# Altium schematic symbol library My_lib.SchLib: 144 symbols (part 1 of 2)
Pins are listed as number, name and electrical type; pins without a type are passive.

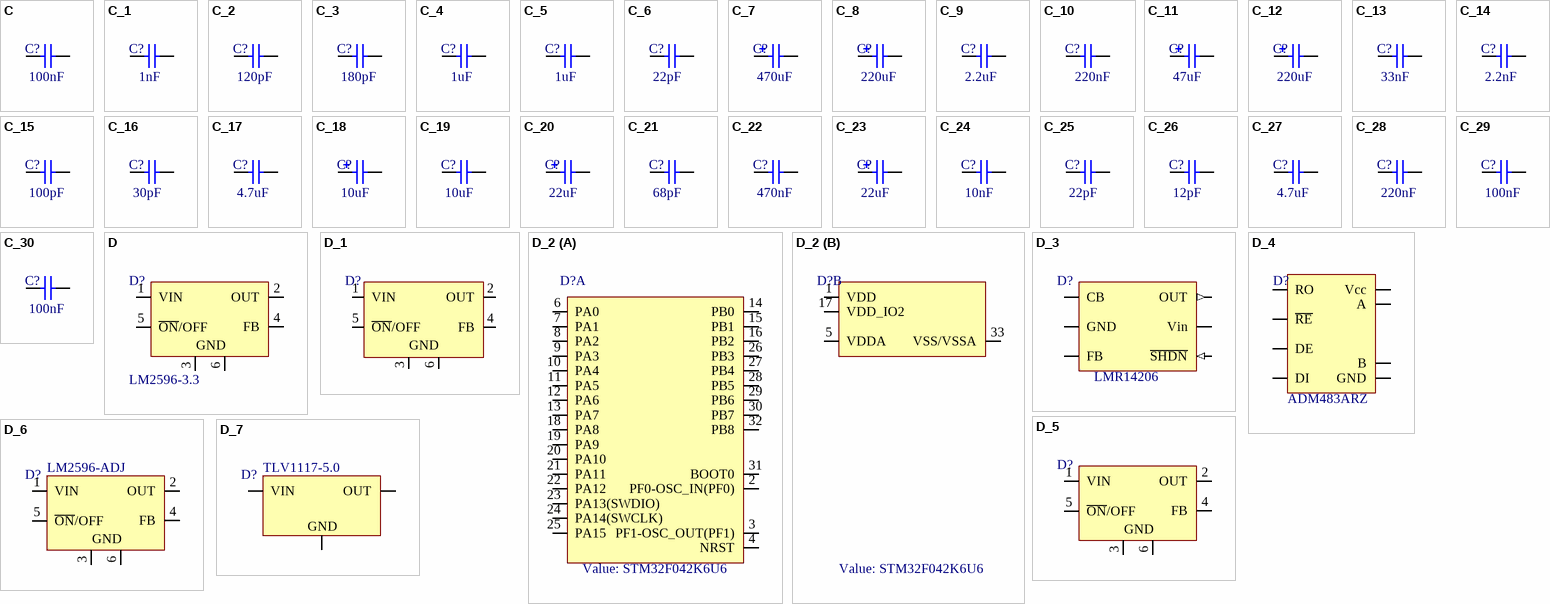
[diagram p0: symbols C to D_7]

## C
designator C?  value 100nF
CAP SMD Керамический 100nF 50v X7R 10% 0603; Family: Конденсатор; Isolator: X7R; Montage: SMD; Tolerance: 10%; Type: Керамический; Voltage: 50v; Package: 0603
simulation model CAP (Capacitor)
signal-integrity model Cap
footprint C_0603 (Chip, Body 1.6x0.85mm, IPC High Density)
pins: 1, 2

## C_1
designator C?  value 1nF
CAP SMD Керамический 1nF 50v X7R 10% 0603; Family: Конденсатор; Isolator: X7R; Montage: SMD; Tolerance: 10%; Type: Керамический; Voltage: 50v; Package: 0603
simulation model CAP (Capacitor)
signal-integrity model Cap
footprint C_0603 (Chip, Body 1.6x0.85mm, IPC High Density)
pins: 1, 2

## C_2
designator C?  value 120pF
CAP SMD Керамический 120pF 50v NPO 5% 0603; Family: Конденсатор; Isolator: NPO; Montage: SMD; Tolerance: 5%; Type: Керамический; Voltage: 50v; Package: 0603
simulation model CAP (Capacitor)
signal-integrity model Cap
footprint C_0603 (Chip, Body 1.6x0.85mm, IPC High Density)
pins: 1, 2

## C_3
designator C?  value 180pF
CAP SMD Керамический 180pF 50v NPO 5% 0603; Family: Конденсатор; Isolator: NPO; Montage: SMD; Tolerance: 5%; Type: Керамический; Voltage: 50v; Package: 0603
simulation model CAP (Capacitor)
signal-integrity model Cap
footprint C_0603 (Chip, Body 1.6x0.85mm, IPC High Density)
pins: 1, 2

## C_4
designator C?  value 1uF
CAP SMD Керамический 1uF 25v X5R 10% 0603; Family: Конденсатор; Isolator: X5R; Montage: SMD; Tolerance: 10%; Type: Керамический; Voltage: 25v; Package: 0603
simulation model CAP (Capacitor)
signal-integrity model Cap
footprint C_0603 (Chip, Body 1.6x0.85mm, IPC High Density)
pins: 1, 2

## C_5
designator C?  value 1uF
CAP SMD Керамический 1uF 50v X5R 10% 0603; Family: Конденсатор; Isolator: X5R; Montage: SMD; Tolerance: 10%; Type: Керамический; Voltage: 50v; Package: 0603
simulation model CAP (Capacitor)
signal-integrity model Cap
footprint C_0603 (Chip, Body 1.6x0.85mm, IPC High Density)
pins: 1, 2

## C_6
designator C?  value 22pF
CAP SMD Керамический 22pF 50v NPO 5% 0603; Family: Конденсатор; Isolator: NPO; Montage: SMD; Tolerance: 5%; Type: Керамический; Voltage: 50v; Package: 0603
simulation model CAP (Capacitor)
signal-integrity model Cap
footprint C_0603 (Chip, Body 1.6x0.85mm, IPC High Density)
pins: 1, 2

## C_7
designator C?  value 470uF
CAP SMD Электролитический 470uF 35v 20% AL_CAP_1216; Family: Конденсатор; Montage: SMD; Tolerance: 20%; Type: Электролитический; Voltage: 35v; Package: AL_CAP_1216
simulation model CAP (Capacitor)
signal-integrity model Cap
footprint AL_CAP_1216 (Aluminium Cap |13.6mm)
pins: 1, 2

## C_8
designator C?  value 220uF
CAP SMD Электролитический 220uF 16v 20% AL_CAP_0607; Family: Конденсатор; Montage: SMD; Tolerance: 20%; Type: Электролитический; Voltage: 16v; Package: AL_CAP_0607
simulation model CAP (Capacitor)
signal-integrity model Cap
footprint AL_CAP_0607 (Aluminium Cap |6.6mm)
pins: 1, 2

## C_9
designator C?  value 2.2uF
CAP SMD Керамический 2.2uF 50v X7R 10% 1206; Family: Конденсатор; Isolator: X7R; Montage: SMD; Tolerance: 10%; Type: Керамический; Voltage: 50v; Package: 1206
simulation model CAP (Capacitor)
signal-integrity model Cap
footprint C_1206 (Chip, Body 3.2x1.6mm, IPC High Density)
pins: 1, 2

## C_10
designator C?  value 220nF
CAP SMD Керамический 220nF 50v X7R 20% 0603; Family: Конденсатор; Isolator: X7R; Montage: SMD; Tolerance: 20%; Type: Керамический; Voltage: 50v; Package: 0603
simulation model CAP (Capacitor)
signal-integrity model Cap
footprint C_0603 (Chip, Body 1.6x0.85mm, IPC High Density)
pins: 1, 2

## C_11
designator C?  value 47uF
CAP SMD Танталовый 47uF 10v 20% TANT_A; Family: Конденсатор; Montage: SMD; Tolerance: 20%; Type: Танталовый; Voltage: 10v; Package: TANT_A
simulation model CAP (Capacitor)
signal-integrity model Cap
footprint TANT_A (TANT_A; 2 Leads)
pins: 1, 2

## C_12
designator C?  value 220uF
CAP SMD Электролитический 220uF 25v 20% AL_CAP_0810; Family: Конденсатор; Montage: SMD; Tolerance: 20%; Type: Электролитический; Voltage: 25v; Package: AL_CAP_0810
simulation model CAP (Capacitor)
signal-integrity model Cap
footprint AL_CAP_0810 (Aluminium Cap |10mm)
pins: 1, 2

## C_13
designator C?  value 33nF
CAP SMD Керамический 33nF 50v X7R 10% 0603; Family: Конденсатор; Isolator: X7R; Montage: SMD; Tolerance: 10%; Type: Керамический; Voltage: 50v; Package: 0603
simulation model CAP (Capacitor)
signal-integrity model Cap
footprint C_0603 (Chip, Body 1.6x0.85mm, IPC High Density)
pins: 1, 2

## C_14
designator C?  value 2.2nF
CAP SMD Керамический 2.2nF 50v X7R 10% 0603; Family: Конденсатор; Isolator: X7R; Montage: SMD; Tolerance: 10%; Type: Керамический; Voltage: 50v; Package: 0603
simulation model CAP (Capacitor)
signal-integrity model Cap
footprint C_0603 (Chip, Body 1.6x0.85mm, IPC High Density)
pins: 1, 2

## C_15
designator C?  value 100pF
CAP SMD Керамический 100pF 50v NPO 5% 0603; Family: Конденсатор; Isolator: NPO; Montage: SMD; Tolerance: 5%; Type: Керамический; Voltage: 50v; Package: 0603
simulation model CAP (Capacitor)
signal-integrity model Cap
footprint C_0603 (Chip, Body 1.6x0.85mm, IPC High Density)
pins: 1, 2

## C_16
designator C?  value 30pF
CAP SMD Керамический 30pF 50v NPO 5% 0603; Family: Конденсатор; Isolator: NPO; Montage: SMD; Tolerance: 5%; Type: Керамический; Voltage: 50v; Package: 0603
simulation model CAP (Capacitor)
signal-integrity model Cap
footprint C_0603 (Chip, Body 1.6x0.85mm, IPC High Density)
pins: 1, 2

## C_17
designator C?  value 4.7uF
CAP SMD Керамический 4.7uF 10v X5R 20% 0603; Family: Конденсатор; Isolator: X5R; Montage: SMD; Tolerance: 20%; Type: Керамический; Voltage: 10v; Package: 0603
simulation model CAP (Capacitor)
signal-integrity model Cap
footprint C_0603 (Chip, Body 1.6x0.85mm, IPC High Density)
pins: 1, 2

## C_18
designator C?  value 10uF
CAP SMD Электролитический 10uF 50v 20% AL_CAP_0505; Family: Конденсатор; Montage: SMD; Tolerance: 20%; Type: Электролитический; Voltage: 50v; Package: AL_CAP_0505
simulation model CAP (Capacitor)
signal-integrity model Cap
footprint AL_CAP_0505 (Aluminium Cap |5.4mm)
pins: 1, 2

## C_19
designator C?  value 10uF
CAP SMD Керамический 10uF 10v X7R 10% 0805; Family: Конденсатор; Isolator: X7R; Montage: SMD; Tolerance: 10%; Type: Керамический; Voltage: 10v; Package: 0805
simulation model CAP (Capacitor)
signal-integrity model Cap
footprint C_0805 (Chip, Body 1.6x0.85mm, IPC High Density)
pins: 1, 2

## C_20
designator C?  value 22uF
CAP SMD Электролитический 22uF 35v 20% AL_CAP_0505; Family: Конденсатор; Montage: SMD; Tolerance: 20%; Type: Электролитический; Voltage: 35v; Package: AL_CAP_0505
simulation model CAP (Capacitor)
signal-integrity model Cap
footprint AL_CAP_0505 (Aluminium Cap |5.4mm)
pins: 1, 2

## C_21
designator C?  value 68pF
CAP SMD Керамический 68pF 50v NPO 5% 0402; Family: Конденсатор; Isolator: NPO; Montage: SMD; Tolerance: 5%; Type: Керамический; Voltage: 50v; Package: 0402
simulation model CAP (Capacitor)
signal-integrity model Cap
footprint C_0402 (Chip, Body 1.6x0.85mm, IPC High Density)
pins: 1, 2

## C_22
designator C?  value 470nF
CAP SMD Керамический 470nF 25v X7R 10% 0603; Family: Конденсатор; Isolator: X7R; Montage: SMD; Tolerance: 10%; Type: Керамический; Voltage: 25v; Package: 0603
simulation model CAP (Capacitor)
signal-integrity model Cap
footprint C_0603 (Chip, Body 1.6x0.85mm, IPC High Density)
pins: 1, 2

## C_23
designator C?  value 22uF
CAP SMD Танталовый 22uF 10v 20% TANT_A; Family: Конденсатор; Montage: SMD; Tolerance: 20%; Type: Танталовый; Voltage: 10v; Package: TANT_A
simulation model CAP (Capacitor)
signal-integrity model Cap
footprint TANT_A (TANT_A; 2 Leads)
pins: 1, 2

## C_24
designator C?  value 10nF
CAP SMD Керамический 10nF 16v X7R 10% 0201; Family: Конденсатор; Isolator: X7R; Montage: SMD; Tolerance: 10%; Type: Керамический; Voltage: 16v; Package: 0201
simulation model CAP (Capacitor)
signal-integrity model Cap
footprint C_0201 (Chip, Body 0.6x0.3mm, IPC High Density)
pins: 1, 2

## C_25
designator C?  value 22pF
CAP SMD Керамический 22pF 50v NPO 5% 0402; Family: Конденсатор; Isolator: NPO; Montage: SMD; Tolerance: 5%; Type: Керамический; Voltage: 50v; Package: 0402
simulation model CAP (Capacitor)
signal-integrity model Cap
footprint C_0402 (Chip, Body 1.6x0.85mm, IPC High Density)
pins: 1, 2

## C_26
designator C?  value 12pF
CAP SMD Керамический 12pF 50v NPO 5% 0402; Family: Конденсатор; Isolator: NPO; Montage: SMD; Tolerance: 5%; Type: Керамический; Voltage: 50v; Package: 0402
simulation model CAP (Capacitor)
signal-integrity model Cap
footprint C_0402 (Chip, Body 1.6x0.85mm, IPC High Density)
pins: 1, 2

## C_27
designator C?  value 4.7uF
CAP SMD Керамический 4.7uF 10v X7R 10% 0805; Family: Конденсатор; Isolator: X7R; Montage: SMD; Tolerance: 10%; Type: Керамический; Voltage: 10v; Package: 0805
simulation model CAP (Capacitor)
signal-integrity model Cap
footprint C_0805 (Chip, Body 1.6x0.85mm, IPC High Density)
pins: 1, 2

## C_28
designator C?  value 220nF
CAP SMD Керамический 220nF 25v X7R 10% 0603; Family: Конденсатор; Isolator: X7R; Montage: SMD; Tolerance: 10%; Type: Керамический; Voltage: 25v; Package: 0603
simulation model CAP (Capacitor)
signal-integrity model Cap
footprint C_0603 (Chip, Body 1.6x0.85mm, IPC High Density)
pins: 1, 2

## C_29
designator C?  value 100nF
CAP SMD Керамический 100nF 16v X7R 10% 0603; Family: Конденсатор; Isolator: X7R; Montage: SMD; Tolerance: 10%; Type: Керамический; Voltage: 16v; Package: 0603
simulation model CAP (Capacitor)
signal-integrity model Cap
footprint C_0603 (Chip, Body 1.6x0.85mm, IPC High Density)
pins: 1, 2

## C_30
designator C?  value 100nF
CAP SMD Керамический 100nF 16v X7R 10% 0402; Family: Конденсатор; Isolator: X7R; Montage: SMD; Tolerance: 10%; Type: Керамический; Voltage: 16v; Package: 0402
simulation model CAP (Capacitor)
signal-integrity model Cap
footprint C_0402 (Chip, Body 1.6x0.85mm, IPC High Density)
pins: 1, 2

## D
designator D?  value LM2596-3.3
LM2596-3.3 Buck Step Down Regulator with 4.75 to 40 V Input and 3.3 V Output, -40 to 125 degC, 5-Pin DDPAK/TO-263 (KTT), Green (RoHS & no Sb/Br); Manufacturer: Texas Instruments; Iout(Max)(A): 1; Preset Vout(V): 3.3; Vin(Max)(V): 40; Vin(Min)(V): 4.75; PackageDescription: 6-Pin Plastic Fange-Mount Package 1.7 mm Pitch, 15.2 mm Lead Span; Topology: Buck; Vout(Max)(V): 3.3; Vout(Min)(V): 3.3; Mounting Technology: Surface Mount
footprint TO-263 (D2-PAK, 6-Leads, Body 8.9x10.2mm, Pitch 1.7mm, Lead Span 15.2mm, IPC Medium Density)
pins: 1 VIN (power), 2 OUT (power), 3 GND (power), 4 FB, 5 ~{ON}/OFF, 6 GND (power)

## D_1
designator D?
LM2596-5.0 Buck Step Down Regulator with 4.75 to 40 V Input and 5.0 V Output, -40 to 125 degC, 5-Pin DDPAK/TO-263 (KTT), Green (RoHS & no Sb/Br); Manufacturer: Texas Instruments; Iout(Max)(A): 1; Iq(Typ)(mA): 5; Preset Vout(V): 5.0; SubFamily: Step-Down Regulator; Switch Current Limit(Typ)(A): 2.8; Vin(Max)(V): 40; Vin(Min)(V): 4.75; PackageReference: KTT5; PackageDescription: 6-Pin Plastic Fange-Mount Package 1.7 mm Pitch, 15.2 mm Lead Span; Topology: Buck; Vout(Max)(V): 5.0; Vout(Min)(V): 5.0; Mounting Technology: Surface Mount; Code_JEDEC: TO-263-AB; ComponentLink1Description: Datasheet; ComponentLink2Description: Package Specification; ComponentLink3Description: URL Link1
footprint TO-263 (D2-PAK, 6-Leads, Body 8.9x10.2mm, Pitch 1.7mm, Lead Span 15.2mm, IPC Medium Density)
pins: 1 VIN (power), 2 OUT (power), 3 GND (power), 4 FB (in), 5 ~{ON}/OFF (in), 6 GND (power)

## D_2
designator D?  value STM32F042K6U6
STM32F042K6U6 ARM Cortex-M0 32-bit MCU, 32 KB Flash, 6 KB Internal RAM, 28 I/Os, 32-pin UFQFPN, -40 to 85 degC, Tray; PartNumber: STM32F050K4U6; FLASH Size (Prog) (kB): 16; I/Os (High Current): 27; Internal RAM Size (kB): 4; Operating Frequency(F) (Processor speed) (MHz): 48; Supply Voltage(Vcc) min (V): 2; DatasheetVersion: Rev. 1; PackageVersion: Rev. 3, 07/2012; PackageReference: UFQFPN32; PackageDescription: 32-Pin Ultra Thin Fine Pitch Quad Flat No-Lead, 5 x 5 x 0.6 mm Body, 0.5 mm Pitch, Exposed Pad; Core: ARM Cortex-M0; Packing: Tray; Mounting Technology: Surface Mount; ComponentLink1Description: Manufacturer URL; ComponentLink1URL: http://www.st.com/web/en/home.html; ComponentLink2Description: Datasheet; ComponentLink2URL: http://www.st.com/st-web-ui/static/active/en/resource/technical/document/datasheet/DM00065136.pdf; ComponentLink3Description: Package Specification; ComponentLink3URL: http://www.st.com/st-web-ui/static/active/en/resource/technical/document/datasheet/DM00039193.pdf
footprint UFQFPN32 (QFN, 32-Leads, Body 5.1x5.1mm, Pitch 0.5mm, Thermal Pad 3.5x3.5mm, IPC Medium Density)
part A pins: 2 PF0-OSC_IN(PF0) (io) "PF0-OSC_IN(PF0)/OSC_IN", 3 PF1-OSC_OUT(PF1) (io) "PF1-OSC_OUT(PF1)/OSC_OUT", 4 NRST (io) "Device reset input / internal reset output (active low)", 6 PA0 (io) "PA0/TIM2_CH1_ETR,USART1_CTS/ADC_IN0,RTC_TAMP2,WKUP1", 7 PA1 (io) "PA1/TIM2_CH2,EVENTOUT,USART1_RTS/ADC_IN1", 8 PA2 (io) "PA2/TIM2_CH3,USART1_TX/ADC_IN2", 9 PA3 (io) "PA3/TIM2_CH4,USART1_RX/ADC_IN3", 10 PA4 (io) "PA4/SPI1_NSS,I2S1_WS,TIM14_CH1,USART1_CK/ADC_IN4", 11 PA5 (io) "PA5/SPI1_SCK,I2S1_CK,TIM2_CH1_ETR/ADC_IN5", 12 PA6 (io) "PA6/SPI1_MISO,I2S1_MCK,TIM3_CH1,TIM1_BKIN,TIM16_CH1,EVENTOUT/ADC_IN6", 13 PA7 (io) "PA7/SPI1_MOSI,I2S1_SD,TIM3_CH2,TIM14_CH1,TIM1_CH1N,TIM17_CH1,EVENTOUT/ADC_IN7", 14 PB0 (io) "PB0/TIM3_CH3,TIM1_CH2N,EVENTOUT/ADC_IN8", 15 PB1 (io) "PB1/TIM3_CH4,TIM14_CH1,TIM1_CH3N/ADC_IN9", 16 PB2 (io), 18 PA8 (io) "PA8/USART1_CK,TIM1_CH1,EVENTOUT,MCO", 19 PA9 (io) "PA9/USART1_TX,TIM1_CH2,I2C1_SCL", 20 PA10 (io) "PA10/USART1_RX,TIM1_CH3,TIM17_BKIN,I2C1_SDA", 21 PA11 (io) "PA11/USART1_CTS,TIM1_CH4,EVENTOUT", 22 PA12 (io) "PA12/USART1_RTS,TIM1_ETR,EVENTOUT", 23 PA13(SWDIO) (io) "PA13(SWDAT)/IR_OUT,SWDAT", 24 PA14(SWCLK) (io) "PA14(SWCLK)/SWCLK,USART1_TX", 25 PA15 (io) "PA15/SPI1_NSS,I2S1_WS,TIM2_CH_ETR,EVENTOUT,USART1_RX", 26 PB3 (io) "PB3/SPI1_SCK,I2S1_CK,TIM2_CH2,EVENTOUT", 27 PB4 (io) "PB4/SPI1_MISO,I2S1_MCK,TIM3_CH1,EVENTOUT", 28 PB5 (io) "PB5/SPI1_MOSI,I2S1_SD,I2C1_SMBA,TIM16_BKIN,TIM3_CH2", 29 PB6 (io) "PB6/I2C1_SCL,USART1_TX,TIM16_CH1N", 30 PB7 (io) "PB7/I2C1_SDA,USART1_RX,TIM17_CH1N", 31 BOOT0 "Boot memory selection", 32 PB8 (io) "PB8/I2C1_SCL,TIM16_CH1"
part B pins: 1 VDD (power) "Digital power supply", 5 VDDA (power) "Analog power supply", 17 VDD_IO2 (power) "Digital power supply", 33 VSS/VSSA (power)

## D_3
designator D?, comment LMR14206
LMR14206 Step Down Regulator 6Pin SOT23-6; Manufacturer: Texas Instruments; PartNumber: TL2575-33IKTTR; Iout(Max)(A): 1; Iq(Typ)(mA): 5; Preset Vout(V): 3.3; SubFamily: Step-Down Regulator; Switch Current Limit(Typ)(A): 2.8; Topology: Buck; Vin(Max)(V): 40; Vin(Min)(V): 4.75; PackageReference: KTT5; PackageDescription: 6-Pin Plastic Fange-Mount Package 1.7 mm Pitch, 15.2 mm Lead Span; Vout(Max)(V): 3.3; Vout(Min)(V): 3.3; Mounting Technology: Surface Mount; Code_JEDEC: TO-263-AB; Value: LMR14206
footprint SOT23-6 (SOT23, 6-Leads, Body 2.9x1.6mm, Pitch 0.95mm, Lead Span 2.7mm, IPC Medium Density)
pins: 1 CB, 2 GND (power), 3 FB (power), 4 ~{SHDN} (in), 5 Vin (power), 6 OUT (out)

## D_4
designator D?  value ADM483ARZ  (hidden comment: D_4)
ADM483; PackageDescription: 8-Pin Plastic Small Outline Package 0.65 mm Pitch
footprint SO8 (SOIC, 8-Leads, Body 6.1x4.95mm, Pitch 1.27mm, IPC Medium Density)
pins: 1 RO, 2 ~{RE}, 3 DE, 4 DI, 5 GND, 6 A, 7 B, 8 Vcc

## D_5
designator D?
LM2575-5.0 Buck Step Down Regulator with 4.75 to 40 V Input and 5.0 V Output, -40 to 125 degC, 5-Pin DDPAK/TO-263 (KTT), Green (RoHS & no Sb/Br); Manufacturer: Texas Instruments; PartNumber: TL2575-33IKTTR; Iout(Max)(A): 1; Iq(Typ)(mA): 5; Preset Vout(V): 5.0; SubFamily: Step-Down Regulator; Switch Current Limit(Typ)(A): 2.8; Vin(Max)(V): 40; Vin(Min)(V): 4.75; PackageReference: KTT5; PackageDescription: 6-Pin Plastic Fange-Mount Package 1.7 mm Pitch, 15.2 mm Lead Span; Topology: Buck; Vout(Max)(V): 5.0; Vout(Min)(V): 5.0; Mounting Technology: Surface Mount; Code_JEDEC: TO-263-AB
footprint TO-263 (D2-PAK, 6-Leads, Body 8.9x10.2mm, Pitch 1.7mm, Lead Span 15.2mm, IPC Medium Density)
pins: 1 VIN (power), 2 OUT (power), 3 GND (power), 4 FB, 5 ~{ON}/OFF, 6 GND (power)

## D_6
designator D?, comment PartNumber: LM2596-ADJ  (hidden comment: KTT5)
LM2596-ADJ Buck Step Down Regulator with 4.75 to 40 V Input and ADJ V Output, -40 to 125 degC, 5-Pin DDPAK/TO-263 (KTT), Green (RoHS & no Sb/Br); Manufacturer: ON Semiconductor; Iout(Max)(A): 3; Iq(Typ)(mA): 5; SubFamily: Step-Down Regulator; Switch Current Limit(Typ)(A): 2.8; Vin(Max)(V): 40; Vin(Min)(V): 4.75; PackageReference: KTT5; PackageDescription: 6-Pin Plastic Fange-Mount Package 1.7 mm Pitch, 15.2 mm Lead Span; Preset Vout(V): ADJ; Topology: Buck; Vout(Max)(V): ADJ; Vout(Min)(V): ADJ; Mounting Technology: Surface Mount; Code_JEDEC: TO-263-AB
footprint TO-263 (D2-PAK, 6-Leads, Body 8.9x10.2mm, Pitch 1.7mm, Lead Span 15.2mm, IPC Medium Density)
pins: 1 VIN (power), 2 OUT (power), 3 GND (power), 4 FB, 5 ~{ON}/OFF, 6 GND (power)

## D_7
designator D?, comment PartNumber: TLV1117-5.0  (hidden comment: KTT5)
TLV1117-5.0 Linear Regulator with 2.7 to 15 V Input and 5v Output, -40 to 125 degC, 3-Pin D-PAK/TO-252, Green (RoHS & no Sb/Br); Manufacturer: Texas Instruments; Iout(Max)(A): 0.8; Iq(Typ)(mA): 5; Switch Current Limit(Typ)(A): 2.8; Vin(Max)(V): 15; Vin(Min)(V): 2.7; PackageReference: KTT5; PackageDescription: 3-Pin Plastic Fange-Mount Package 1.7 mm Pitch, 15.2 mm Lead Span; Preset Vout(V): 5v; SubFamily: Linear Regulator; Topology: Linear; Vout(Max)(V): 5; Vout(Min)(V): 5; Mounting Technology: Surface Mount; Code_JEDEC: TO-263-AB
footprint TO-252 (D-PAK, 4-Leads, Body 6.1x6.5mm, Pitch 2.28mm, Lead Span 9.7mm, IPC Medium Density)
pins: 1 GND (power), 2 OUT (power), 3 VIN (power)

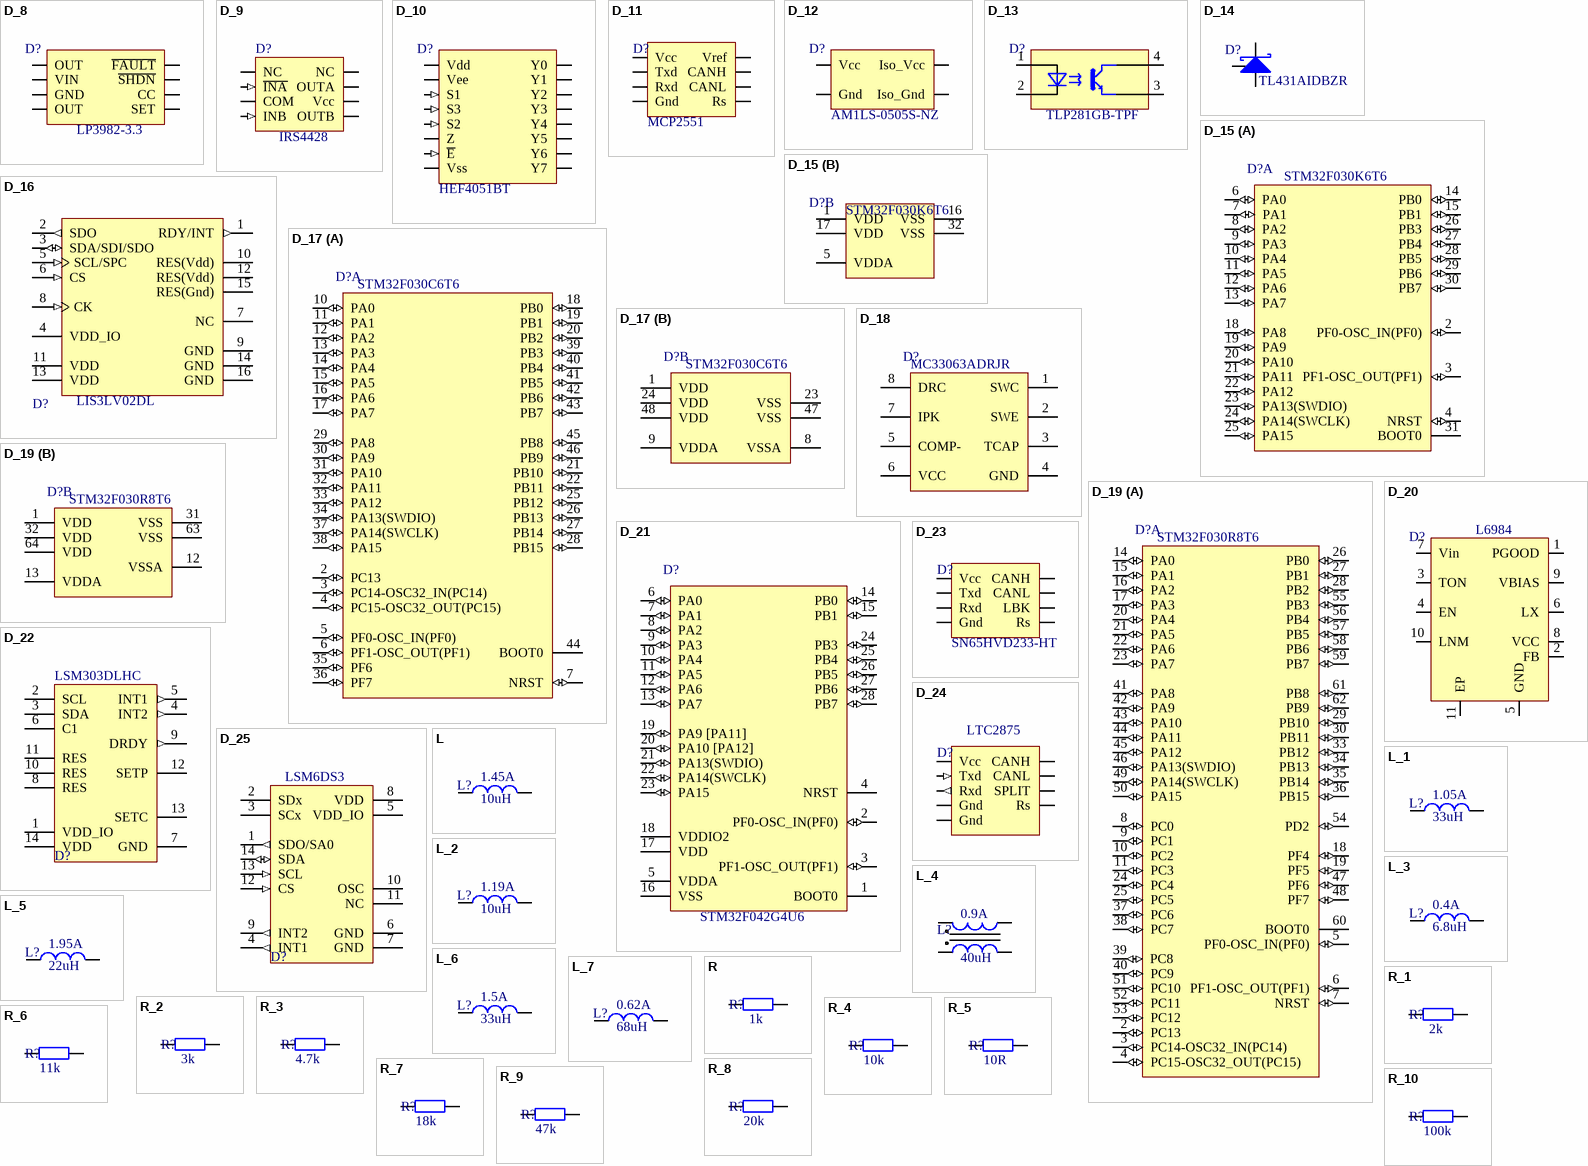
[diagram p1: symbols D_8 to R_10]

## D_8
designator D?, comment PartNumber: LP3982-3.3  (hidden comment: KTT5)
LP3982-3.3 Linear Regulator with 3.3v Output, -40 to 125 degC, 8-Pin VSSOP, Green (RoHS & no Sb/Br); Manufacturer: Texas Instruments; Iout(Max)(A): 0.3; Iq(Typ)(mA): 5; Preset Vout(V): 3.3; Switch Current Limit(Typ)(A): 2.8; Vin(Max)(V): 6; Vin(Min)(V): 2.5; PackageReference: KTT5; PackageDescription: 8-Pin VSSOP 1.7 mm Pitch, 15.2 mm Lead Span; SubFamily: Linear Regulator; Topology: Linear; Vout(Max)(V): 3.3; Vout(Min)(V): 3.3; Mounting Technology: Surface Mount; Code_JEDEC: TO-263-AB
footprint VSSOP8 (SOP, 8-Leads, Body 4.4x3mm, Pitch 0.65mm, IPC Medium Density)
pins: 1 OUT (power), 2 VIN (power), 3 GND (power), 4 OUT (power), 5 SET (power), 6 CC (power), 7 ~{SHDN} (power), 8 ~{FAULT} (power)

## D_9
designator D?, comment IRS4428
IRS4428 Dual Low Side Driver; Note: Pins 4 and 5 not connected (NC).; Published: 8-Jun-2000; LatestRevisionDate: 13-Apr-2006; LatestRevisionNote: IPC-7351 Footprint Added.; DatasheetVersion: PD60146I; PackageVersion: Feb-2001; PackageReference: SO-8; Publisher: Altium Limited; PackageDescription: 8-Pin Plastic Small Outline Integrated Circuit 1.27 mm Pitch; Code_JEDEC: MS-012-AA; Code_IPC: SOIC127P600-8; ComponentLink1Description: Manufacturer Link; ComponentLink1URL: http://www.irf.com/; ComponentLink2Description: Datasheet; ComponentLink2URL: http://www.irf.com/product-info/datasheets/data/ir2117.pdf; Value: IRS4428
footprint SO8 (SOIC, 8-Leads, Body 6.1x4.95mm, Pitch 1.27mm, IPC Medium Density)
pins: 1 NC, 2 ~{INA} (in), 3 COM (power), 4 INB (in), 5 OUTB, 6 Vcc (power), 7 OUTA, 8 NC

## D_10
designator D?  value HEF4051BT
HEF4021BT, -40 to 125 degC, 16-Pin SO16, Green (RoHS & no Sb/Br); Manufacturer: Texas Instruments; PartNumber: TL2575-33IKTTR; Iout(Max)(A): 1; Iq(Typ)(mA): 5; Preset Vout(V): 3.3; SubFamily: Step-Down Regulator; Switch Current Limit(Typ)(A): 2.8; Topology: Buck; Vin(Max)(V): 40; Vin(Min)(V): 4.75; PackageReference: KTT5; PackageDescription: 6-Pin Plastic Fange-Mount Package 1.7 mm Pitch, 15.2 mm Lead Span; Vout(Max)(V): 3.3; Vout(Min)(V): 3.3; Mounting Technology: Surface Mount; Code_JEDEC: TO-263-AB
footprint SO16 (SOIC, 16-Leads, Body 9.9x3.8mm, Pitch 1.27mm, IPC Medium Density)
pins: 1 Y4 (io), 2 Y6 (io), 3 Z (io), 4 Y7 (io), 5 Y5 (io), 6 ~{E} (in), 7 Vee (power), 8 Vss (power), 9 S3 (in), 10 S2 (in), 11 S1 (in), 12 Y3 (io), 13 Y0 (io), 14 Y1 (io), 15 Y2 (io), 16 Vdd (power)

## D_11
designator D?  value MCP2551  (hidden comment: D_11)
MCP2551; PackageDescription: 8-Pin Plastic Small Outline Package 0.65 mm Pitch
footprint SO8 (SOIC, 8-Leads, Body 6.1x4.95mm, Pitch 1.27mm, IPC Medium Density)
pins: 1 Txd, 2 Gnd, 3 Vcc, 4 Rxd, 5 Vref, 6 CANL, 7 CANH, 8 Rs

## D_12
designator D?  value AM1LS-0505S-NZ
AM1LS-0505S-NZ; Manufacturer: Aimtec; Iout(Max)(A): 1; Preset Vout(V): 3.3; SubFamily: Step-Down Regulator; Switch Current Limit(Typ)(A): 2.8; Topology: Buck; Vin(Max)(V): 40; Vin(Min)(V): 4.75; PackageDescription: 6-Pin Plastic Fange-Mount Package 1.7 mm Pitch, 15.2 mm Lead Span; Vout(Max)(V): 3.3; Vout(Min)(V): 3.3; Mounting Technology: Surface Mount
footprint AM1LS (SOT23, 6-Leads, Body 2.9x1.6mm, Pitch 0.95mm, Lead Span 2.7mm, IPC Medium Density)
pins: 1 Gnd (power), 2 Vcc (power), 3 Iso_Gnd (power), 4 Iso_Vcc (power)

## D_13
designator D?  value TLP281GB-TPF
TLP281GB-TPF; Manufacturer: Texas Instruments; Iout(Max)(A): 1; Preset Vout(V): 3.3; Topology: Buck; Vin(Max)(V): 40; Vin(Min)(V): 4.75; PackageDescription: 6-Pin Plastic Fange-Mount Package 1.7 mm Pitch, 15.2 mm Lead Span; Vout(Max)(V): 3.3; Vout(Min)(V): 3.3; Mounting Technology: Surface Mount
footprint TLP281 (Optic)
pins: 1 VIN, 2 ~{ON}/OFF, 3 FB, 4 OUT

## D_14
designator D?  value TL431AIDBZR
TL431AIDBZR; Manufacturer: Texas Instruments; Iout(Max)(A): 0.1; Preset Vout(V): 3.3; Topology: Buck; Vin(Max)(V): 36; Vin(Min)(V): 2.5; PackageDescription: SOT23; Vout(Max)(V): 36; Vout(Min)(V): 2.5; Mounting Technology: Surface Mount
footprint SOT23 (SOT23, 3-Leads, Body 2.9x1.3mm, Pitch 0.95mm, Lead Span 2.3mm - Reverse Pinning, IPC Medium Density)
pins: 1 VIN, 2 OUT, 3 GND (power)

## D_15
designator D?  value STM32F030K6T6
STM32F030K6T6 ARM Cortex-M0 32-bit MCU, 32 KB Flash, 4 KB Internal RAM, 26 I/Os, 32-pin LQFP, -40 to 85 degC, Tray; FLASH Size (Prog) (kB): 32; I/Os (High Current): 26; Internal RAM Size (kB): 4; Operating Frequency(F) (Processor speed) (MHz): 48; Supply Voltage(Vcc) min (V): 2.4; DatasheetVersion: Rev. 1; PackageVersion: Rev. 1, 07/2013; PackageReference: LQFP32; PackageDescription: 32-Pin Low Profile Quad Flat Package, 7 x 7 mm Body, 0.8 mm Pitch; Core: ARM Cortex-M0; Packing: Tray; Mounting Technology: Surface Mount; PartNumber: STM32F030K6T6
footprint LQFP32 (QFP, 32-Leads, Body 7x7mm, Pitch 0.8mm, IPC Medium Density)
part A pins: 2 PF0-OSC_IN(PF0) (io) "PF0-OSC_IN(PF0)/OSC_IN", 3 PF1-OSC_OUT(PF1) (io) "PF1-OSC_OUT(PF1)/OSC_OUT", 4 NRST (io) "Device reset input / internal reset output (active low)", 6 PA0 (io) "PA0/USART1_CTS/ADC_IN0,RTC_TAMP2,WKUP1", 7 PA1 (io) "PA1/USART1_RTS,EVENTOUT/ADC_IN1", 8 PA2 (io) "PA2/USART1_TX/ADC_IN2", 9 PA3 (io) "PA3/USART1_RX/ADC_IN3", 10 PA4 (io) "PA4/SPI1_NSS,USART1_CK,TIM14_CH1/ADC_IN4", 11 PA5 (io) "PA5/SPI1_SCK/ADC_IN5", 12 PA6 (io) "PA6/SPI1_MISO,TIM3_CH1,TIM1_BKIN,TIM16_CH1,EVENTOUT/ADC_IN6", 13 PA7 (io) "PA7/SPI1_MOSI,TIM3_CH2,TIM14_CH1,TIM1_CH1N,TIM17_CH1,EVENTOUT/ADC_IN7", 14 PB0 (io) "PB0/TIM3_CH3,TIM1_CH2N,EVENTOUT/ADC_IN8", 15 PB1 (io) "PB1/TIM3_CH4,TIM14_CH1,TIM1_CH3N/ADC_IN9", 18 PA8 (io) "PA8/USART1_CK,TIM1_CH1,EVENTOUT,MCO", 19 PA9 (io) "PA9/USART1_TX,TIM1_CH2,I2C1_SCL", 20 PA10 (io) "PA10/USART1_RX,TIM1_CH3,TIM17_BKIN,I2C1_SDA", 21 PA11 (io) "PA11/USART1_CTS,TIM1_CH4,EVENTOUT", 22 PA12 (io) "PA12/USART1_RTS,TIM1_ETR,EVENTOUT", 23 PA13(SWDIO) (io) "PA13(SWDIO)/IR_OUT,SWDIO", 24 PA14(SWCLK) (io) "PA14(SWCLK)/USART1_TX,SWCLK", 25 PA15 (io) "PA15/SPI1_NSS,USART1_RX,EVENTOUT", 26 PB3 (io) "PB3/SPI1_SCK,EVENTOUT", 27 PB4 (io) "PB4/SPI1_MISO,TIM3_CH1,EVENTOUT", 28 PB5 (io) "PB5/SPI1_MOSI,I2C1_SMBA,TIM16_BKIN,TIM3_CH2", 29 PB6 (io) "PB6/I2C1_SCL,USART1_TX,TIM16_CH1N", 30 PB7 (io) "PB7/I2C1_SDA,USART1_RX,TIM17_CH1N", 31 BOOT0 "Boot memory selection"
part B pins: 1 VDD (power) "Digital power supply", 5 VDDA (power) "Analog power supply", 16 VSS (power) "Ground", 17 VDD (power) "Digital power supply", 32 VSS (power) "Ground"

## D_16
designator D?  value LIS3LV02DL
LIS3LV02DL MEMS inertial sensor: 3-axis ± 2g/± 6g digital output low voltage linear accelerometer, -40 to +85°C, LGA-16 (4.4x7.5x1), Tray; Manufacturer: STMicroelectronics; PackageReference: LGA16-4.4X7.5X1
footprint LGA16-4.4X7.5X1 (PQFN, 16-Leads, Body 4.4x7.5mm, Pitch 1mm, IPC Medium Density)
pins: 1 RDY/INT (out), 2 SDO (out), 3 SDA/SDI/SDO (io), 4 VDD_IO (power), 5 SCL/SPC (in), 6 CS (in), 7 NC, 8 CK (in), 9 GND (power), 10 RES(Vdd), 11 VDD (power), 12 RES(Vdd), 13 VDD (power), 14 GND (power), 15 RES(Gnd), 16 GND (power)

## D_17
designator D?  value STM32F030C6T6
STM32F030C6T6 ARM Cortex-M0 32-bit MCU, 32 KB Flash, 4 KB Internal RAM, 39 I/Os, 48-pin LQFP, -40 to 85 degC, Tray; FLASH Size (Prog) (kB): 32; I/Os (High Current): 39; Internal RAM Size (kB): 4; Operating Frequency(F) (Processor speed) (MHz): 48; Supply Voltage(Vcc) min (V): 2.4; DatasheetVersion: Rev. 1; PackageVersion: Rev. 6, 06/2013; PackageReference: LQFP48; PackageDescription: 48-Pin Low Profile Quad Flat Package, 7 x 7 mm Body, 0.5 mm Pitch; Core: ARM Cortex-M0; Packing: Tray; Mounting Technology: Surface Mount; PartNumber: STM32F030C6T6
footprint LQFP48 (QFP, 48-Leads, Body 7x7mm, Pitch 0.5mm, IPC Medium Density)
part A pins: 2 PC13 (io) "PC13/RTC_TAMP1,RTC_TS,RTC_OUT,WKUP2", 3 PC14-OSC32_IN(PC14) (io) "PC14-OSC32_IN(PC14)/OSC32_IN", 4 PC15-OSC32_OUT(PC15) (io) "PC15-OSC32_OUT(PC15)/OSC32_OUT", 5 PF0-OSC_IN(PF0) (io) "PF0-OSC_IN(PF0)/OSC_IN", 6 PF1-OSC_OUT(PF1) (io) "PF1-OSC_OUT(PF1)/OSC_OUT", 7 NRST (io) "Device reset input / internal reset output (active low)", 10 PA0 (io) "PA0/USART1_CTS/ADC_IN0,RTC_TAMP2,WKUP1", 11 PA1 (io) "PA1/USART1_RTS,EVENTOUT/ADC_IN1", 12 PA2 (io) "PA2/USART1_TX/ADC_IN2", 13 PA3 (io) "PA3/USART1_RX/ADC_IN3", 14 PA4 (io) "PA4/SPI1_NSS,USART1_CK,TIM14_CH1/ADC_IN4", 15 PA5 (io) "PA5/SPI1_SCK/ADC_IN5", 16 PA6 (io) "PA6/SPI1_MISO,TIM3_CH1,TIM1_BKIN,TIM16_CH1,EVENTOUT/ADC_IN6", 17 PA7 (io) "PA7/SPI1_MOSI,TIM3_CH2,TIM14_CH1,TIM1_CH1N,TIM17_CH1,EVENTOUT/ADC_IN7", 18 PB0 (io) "PB0/TIM3_CH3,TIM1_CH2N,EVENTOUT/ADC_IN8", 19 PB1 (io) "PB1/TIM3_CH4,TIM14_CH1,TIM1_CH3N/ADC_IN9", 20 PB2 (io), 21 PB10 (io) "PB10/I2C1_SCL", 22 PB11 (io) "PB11/I2C1_SDA,EVENTOUT", 25 PB12 (io) "PB12/SPI1_NSS,TIM1_BKIN,EVENTOUT", 26 PB13 (io) "PB13/SPI1_SCK,TIM1_CH1N", 27 PB14 (io) "PB14/SPI1_MISO,TIM1_CH2N", 28 PB15 (io) "PB15/SPI1_MOSI,TIM1_CH3N/RTC_REFIN", 29 PA8 (io) "PA8/USART1_CK,TIM1_CH1,EVENTOUT,MCO", 30 PA9 (io) "PA9/USART1_TX,TIM1_CH2,I2C1_SCL", 31 PA10 (io) "PA10/USART1_RX,TIM1_CH3,TIM17_BKIN,I2C1_SDA", 32 PA11 (io) "PA11/USART1_CTS,TIM1_CH4,EVENTOUT", 33 PA12 (io) "PA12/USART1_RTS,TIM1_ETR,EVENTOUT", 34 PA13(SWDIO) (io) "PA13(SWDIO)/IR_OUT,SWDIO", 35 PF6 (io) "PF6/I2C1_SCL", 36 PF7 (io) "PF7/I2C1_SDA", 37 PA14(SWCLK) (io) "PA14(SWCLK)/USART1_TX,SWCLK", 38 PA15 (io) "PA15/SPI1_NSS,USART1_RX,EVENTOUT", 39 PB3 (io) "PB3/SPI1_SCK,EVENTOUT", 40 PB4 (io) "PB4/SPI1_MISO,TIM3_CH1,EVENTOUT", 41 PB5 (io) "PB5/SPI1_MOSI,I2C1_SMBA,TIM16_BKIN,TIM3_CH2", 42 PB6 (io) "PB6/I2C1_SCL,USART1_TX,TIM16_CH1N", 43 PB7 (io) "PB7/I2C1_SDA,USART1_RX,TIM17_CH1N", 44 BOOT0 "Boot memory selection", 45 PB8 (io) "PB8/I2C1_SCL,TIM16_CH1", 46 PB9 (io) "PB9/I2C1_SDA,IR_OUT,TIM17_CH1,EVENTOUT"
part B pins: 1 VDD (power) "Complementary power supply", 8 VSSA (power) "Analog ground", 9 VDDA (power) "Analog power supply", 23 VSS (power) "Ground", 24 VDD (power) "Digital power supply", 47 VSS (power) "Ground", 48 VDD (power) "Digital power supply"

## D_18
designator D?, comment MC33063ADRJR
MC33063ADRJR Inverting Buck-Boost Regulator with 3 to 40 V Input and 1.25 to 40 V Output, -40 to 85 degC, 8-Pin SON (DRJ), Green (RoHS & no Sb/Br); Manufacturer: Texas Instruments; Iout(Max)(A): 0.75; Rating: Catalog; Regulated Outputs(#): 1; SubFamily: Step-Down Regulator; Switch Current Limit(Typ)(A): 1.5; Vin(Max)(V): 40; Vin(Min)(V): 3; Vout(Min)(V): 1.25; PackageVersion: revC, Dec-2010; PackageReference: DRJ8-3000X2200TP; PackageDescription: 8-Pin Plastic Small Outline No-Lead, 4 x 4 x 0.8 mm Body, 0.8 mm Pitch, Exposed Pad; Eco-Plan: Green (RoHS & no Sb/Br); Topology: Inverting Buck-Boost; Vout(Max)(V): 40; Mounting Technology: Surface Mount; Value: MC33063ADRJR
footprint DFN8 (SON, 8-Leads, Body 4x4mm, Pitch 0.8mm, Thermal Pad 3x2.2mm, TI Recommended)
pins: 1 SWC (oc), 2 SWE (oe), 3 TCAP, 4 GND (power), 5 COMP-, 6 VCC (power), 7 IPK, 8 DRC (oc), 9 EP (power) hidden to Gnd

## D_19
designator D?  value STM32F030R8T6  (hidden comment: D_19)
STM32F030R8T6 ARM Cortex-M0 32-bit MCU, 64 KB Flash, 8 KB Internal RAM, 55 I/Os, 64-pin LQFP, -40 to 85 degC, Tray; FLASH Size (Prog) (kB): 64; I/Os (High Current): 55; Internal RAM Size (kB): 8; Operating Frequency(F) (Processor speed) (MHz): 48; Supply Voltage(Vcc) min (V): 2.4; DatasheetVersion: Rev. 1; PackageVersion: Rev. 4, 06/2013; PackageReference: LQFP64; PackageDescription: 64-Pin Low Profile Quad Flat Package, 10 x 10 mm Body, 0.5 mm Pitch; Core: ARM Cortex-M0; Packing: Tray; Mounting Technology: Surface Mount
footprint LQFP64 (Thin QFP, 64-Leads, Body 10x10mm, Pitch 0.5mm, IPC Medium Density)
part A pins: 2 PC13 (io), 3 PC14-OSC32_IN(PC14) (io), 4 PC15-OSC32_OUT(PC15) (io), 5 PF0-OSC_IN(PF0) (io), 6 PF1-OSC_OUT(PF1) (io), 7 NRST (io) "Device reset input / internal reset output (active low)", 8 PC0 (io) "PC0/EVENTOUT/ADC_IN10", 9 PC1 (io) "PC1/EVENTOUT/ADC_IN11", 10 PC2 (io) "PC2/EVENTOUT/ADC_IN12", 11 PC3 (io) "PC3/EVENTOUT/ADC_IN13", 14 PA0 (io) "PA0/USART2_CTS/ADC_IN0,RTC_TAMP2,WKUP1", 15 PA1 (io) "PA1/USART2_RTS,EVENTOUT/ADC_IN1", 16 PA2 (io) "PA2/USART2_TX,TIM15_CH1/ADC_IN2", 17 PA3 (io) "PA3/USART2_RX,TIM15_CH2/ADC_IN3", 18 PF4 (io) "PF4/EVENTOUT", 19 PF5 (io) "PF5/EVENTOUT", 20 PA4 (io) "PA4/SPI1_NSS,USART2_CK,TIM14_CH1/ADC_IN4", 21 PA5 (io) "PA5/SPI1_SCK/ADC_IN5", 22 PA6 (io) "PA6/SPI1_MISO,TIM3_CH1,TIM1_BKIN,TIM16_CH1,EVENTOUT/ADC_IN6", 23 PA7 (io) "PA7/SPI1_MOSI,TIM3_CH2,TIM14_CH1,TIM1_CH1N,TIM17_CH1,EVENTOUT/ADC_IN7", 24 PC4 (io) "PC4/EVENTOUT/ADC_IN14", 25 PC5 (io) "PC5/ADC_IN15", 26 PB0 (io) "PB0/TIM3_CH3,TIM1_CH2N,EVENTOUT/ADC_IN8", 27 PB1 (io) "PB1/TIM3_CH4,TIM14_CH1,TIM1_CH3N/ADC_IN9", 28 PB2 (io), 29 PB10 (io) "PB10/I2C2_SCL", 30 PB11 (io) "PB11/I2C2_SDA,EVENTOUT", 33 PB12 (io) "PB12/SPI2_NSS,TIM1_BKIN,EVENTOUT", 34 PB13 (io) "PB13/SPI2_SCK,TIM1_CH1N", 35 PB14 (io) "PB14/SPI2_MISO,TIM1_CH2N,TIM15_CH1", 36 PB15 (io) "PB15/SPI2_MOSI,TIM1_CH3N,TIM15_CH1N,TIM15_CH2/RTC_REFIN", 37 PC6 (io) "PC6/TIM3_CH1", 38 PC7 (io) "PC7/TIM3_CH2", 39 PC8 (io) "PC8/TIM3_CH3", 40 PC9 (io) "PC9/TIM3_CH4", 41 PA8 (io) "PA8/USART1_CK,TIM1_CH1,EVENTOUT,MCO", 42 PA9 (io) "PA9/USART1_TX,TIM1_CH2,TIM15_BKIN", 43 PA10 (io) "PA10/USART1_RX,TIM1_CH3,TIM17_BKIN", 44 PA11 (io) "PA11/USART1_CTS,TIM1_CH4,EVENTOUT", 45 PA12 (io) "PA12/USART1_RTS,TIM1_ETR,EVENTOUT", 46 PA13(SWDIO) (io) "PA13(SWDIO)/IR_OUT,SWDIO", 47 PF6 (io) "PF6/I2C2_SCL", 48 PF7 (io) "PF7/I2C2_SDA", 49 PA14(SWCLK) (io) "PA14(SWCLK)/USART2_TX,SWCLK", 50 PA15 (io) "PA15/SPI1_NSS,USART2_RX,EVENTOUT", 51 PC10 (io), 52 PC11 (io), 53 PC12 (io), 54 PD2 (io) "PD2/TIM3_ETR", 55 PB3 (io) "PB3/SPI1_SCK,EVENTOUT", 56 PB4 (io) "PB4/SPI1_MISO,TIM3_CH1,EVENTOUT", 57 PB5 (io) "PB5/SPI1_MOSI,I2C1_SMBA,TIM16_BKIN,TIM3_CH2", 58 PB6 (io) "PB6/I2C1_SCL,USART1_TX,TIM16_CH1N", 59 PB7 (io) "PB7/I2C1_SDA,USART1_RX,TIM17_CH1N", 60 BOOT0 "Boot memory selection", 61 PB8 (io) "PB8/I2C1_SCL,TIM16_CH1", 62 PB9 (io) "PB9/I2C1_SDA,IR_OUT,TIM17_CH1,EVENTOUT"
part B pins: 1 VDD (power) "Complementary power supply", 12 VSSA (power) "Analog ground", 13 VDDA (power) "Analog power supply", 31 VSS (power) "Ground", 32 VDD (power) "Digital power supply", 63 VSS (power) "Ground", 64 VDD (power) "Digital power supply"

## D_20
designator D?  value L6984
L6984 Synchronous step-down; Manufacturer: STMicroelectronics; Iout(Max)(A): 0.4; Vin(Max)(V): 36; Vin(Min)(V): 4.5; Vout(Min)(V): 0.9; PackageDescription: SON, 10-Leads, Body 3x3mm, Pitch 0.5mm, Thermal Pad 2.45x1.6mm, IPC High Density; Topology: Synchronous step-down; Vout(Max)(V): 36; Mounting Technology: Surface Mount
footprint DFN10(3x3) (SON, 10-Leads, Body 3x3mm, Pitch 0.5mm, Thermal Pad 2.45x1.6mm, IPC High Density)
pins: 1 PGOOD (oc), 2 FB, 3 TON, 4 EN, 5 GND (power), 6 LX (power), 7 Vin (power), 8 VCC, 9 VBIAS, 10 LNM, 11 EP

## D_21
designator D?  value STM32F042G4U6
STM32F042G4U6 ARM Cortex-M0 32-bit MCU, 16 KB Flash, 4 KB Internal RAM, 23 I/Os, 28-pin UFQFPN, -40 to 85 degC, Tray; PartNumber: STM32F050G4U6; FLASH Size (Prog) (kB): 16; I/Os (High Current): 23; Internal RAM Size (kB): 4; Operating Frequency(F) (Processor speed) (MHz): 48; Supply Voltage(Vcc) min (V): 2; DatasheetVersion: Rev. 1; PackageVersion: Rev. 1, 11/2012; PackageReference: UFQFPN28; PackageDescription: 28-Pin Ultra Thin Fine Pitch Quad Flat No-Lead, 4 x 4 x 0.6 mm Body, 0.5 mm Pitch; Core: ARM Cortex-M0; Packing: Tray; Mounting Technology: Surface Mount
footprint UFQFPN28 (QFN, 28-Leads, Body 4.1x4.1mm, Pitch 0.5mm)
pins: 1 BOOT0 "Boot memory selection", 2 PF0-OSC_IN(PF0) (io) "PF0-OSC_IN(PF0)/OSC_IN", 3 PF1-OSC_OUT(PF1) (io) "PF1-OSC_OUT(PF1)/OSC_OUT", 4 NRST "Device reset input / internal reset output (active low)", 5 VDDA (power) "Analog power supply", 6 PA0 (io) "PA0/TIM2_CH1_ETR,USART1_CTS/ADC_IN0,RTC_TAMP2,WKUP1", 7 PA1 (io) "PA1/TIM2_CH2,EVENTOUT,USART1_RTS/ADC_IN1", 8 PA2 (io) "PA2/TIM2_CH3,USART1_TX/ADC_IN2", 9 PA3 (io) "PA3/TIM2_CH4,USART1_RX/ADC_IN3", 10 PA4 (io) "PA4/SPI1_NSS,I2S1_WS,TIM14_CH1,USART1_CK/ADC_IN4", 11 PA5 (io) "PA5/SPI1_SCK,I2S1_CK,TIM2_CH1_ETR/ADC_IN5", 12 PA6 (io) "PA6/SPI1_MISO,I2S1_MCK,TIM3_CH1,TIM1_BKIN,TIM16_CH1,EVENTOUT/ADC_IN6", 13 PA7 (io) "PA7/SPI1_MOSI,I2S1_SD,TIM3_CH2,TIM14_CH1,TIM1_CH1N,TIM17_CH1,EVENTOUT/ADC_IN7", 14 PB0 (io) "PB0/TIM3_CH3,TIM1_CH2N,EVENTOUT/ADC_IN8", 15 PB1 (io) "PB1/TIM3_CH4,TIM14_CH1,TIM1_CH3N/ADC_IN9", 16 VSS (power) "Ground", 17 VDD (power) "Digital power supply", 18 VDDIO2 (power) "Digital power supply", 19 PA9 [PA11] (io) "PA9/USART1_TX,TIM1_CH2,I2C1_SCL", 20 PA10 [PA12] (io) "PA10/USART1_RX,TIM1_CH3,TIM17_BKIN,I2C1_SDA", 21 PA13(SWDIO) (io) "PA13(SWDAT)/IR_OUT,SWDAT", 22 PA14(SWCLK) (io) "PA14(SWCLK)/SWCLK,USART1_TX", 23 PA15 (io) "PA15/SPI1_NSS,I2S1_WS,TIM2_CH_ETR,EVENTOUT,USART1_RX", 24 PB3 (io) "PB3/SPI1_SCK,I2S1_CK,TIM2_CH2,EVENTOUT", 25 PB4 (io) "PB4/SPI1_MISO,I2S1_MCK,TIM3_CH1,EVENTOUT", 26 PB5 (io) "PB5/SPI1_MOSI,I2S1_SD,I2C1_SMBA,TIM16_BKIN,TIM3_CH2", 27 PB6 (io) "PB6/I2C1_SCL,USART1_TX,TIM16_CH1N", 28 PB7 (io) "PB7/I2C1_SDA,USART1_RX,TIM17_CH1N"

## D_22
designator D?  value LSM303DLHC
LSM303DLHC Ultra compact high performance e-compass: 3D accelerometer and 3D magnetometer module, -40 to +85°C, LGA-14 (3x5x1), Tray; Manufacturer: STMicroelectronics; PackageVersion: 2011; PackageReference: LGA14-3X5X1; PackageDescription: 14-Lead Land Grid Array Package, 5 x 3 x 1 mm Body, 0.8 mm Pitch
footprint LGA14-3X5X1 (PQFN, 14-Leads, Body 3x5mm, Pitch 0.8mm, IPC High Density)
pins: 1 VDD_IO (power), 2 SCL (oc), 3 SDA (oc), 4 INT2 (out), 5 INT1 (out), 6 C1, 7 GND (power), 8 RES, 9 DRDY (out), 10 RES, 11 RES, 12 SETP, 13 SETC, 14 VDD (power)

## D_23
designator D?  value SN65HVD233-HT  (hidden comment: D_23)
SN65HVD233-HT; PackageDescription: 8-Pin Plastic Small Outline Package 0.65 mm Pitch
footprint SO8 (SOIC, 8-Leads, Body 6.1x4.95mm, Pitch 1.27mm, IPC Medium Density)
pins: 1 Txd, 2 Gnd, 3 Vcc, 4 Rxd, 5 LBK, 6 CANL, 7 CANH, 8 Rs

## D_24
designator D?  value LTC2875  (hidden comment: D_24)
LTC2875; PackageDescription: 8-Pin Plastic Small Outline Package 0.65 mm Pitch
footprint DFN8(3x3)_Pitch_0.5 (SON, 8-Leads, Body 3x3mm, Pitch 0.5mm, Thermal Pad 2.38x1.64mm, IPC High Density)
pins: 1 Txd (in), 2 Gnd (power), 3 Vcc (power), 4 Rxd (out), 5 SPLIT, 6 CANL, 7 CANH, 8 Rs, 9 Gnd (power)

## D_25
designator D?  value LSM6DS3
LSM6DS3 iNEMO inertial module: always-on 3D accelerometer and 3D gyroscope, -40 to +85°C, LGA-14L (2.5x3x0.83); Manufacturer: STMicroelectronics; PackageVersion: 2011; PackageReference: LGA14-3X5X1; PackageDescription: 14-Lead Land Grid Array Package, 5 x 3 x 1 mm Body, 0.8 mm Pitch
footprint LGA14-2.5X3X0.86 (PQFN, 14-Leads, Body 2.5x3mm, Pitch 0.5mm, IPC High Density)
pins: 1 SDO/SA0 (out), 2 SDx (oc), 3 SCx (oc), 4 INT1 (out), 5 VDD_IO (power), 6 GND (power), 7 GND (power), 8 VDD (power), 9 INT2 (out), 10 OSC, 11 NC, 12 CS (in), 13 SCL (in), 14 SDA (io)

## L
designator L?  value 10uH  Current: 1.45A
INDUCT SMD 10uH 1.45A SR0604; Manufacturer: ABC; Family: Катушка индуктивности; Montage: SMD; Package: SR0604
footprint SR0604 (Chip Inductor, Body o5.6mm)
pins: 1, 2

## L_1
designator L?  value 33uH  Current: 1.05A
INDUCT SMD 33uH 1.05A SS0704; Manufacturer: ABC; Family: Катушка индуктивности; Montage: SMD; Package: SS0704
footprint SS0704 (Chip Inductor, Body o7.5mm)
pins: 1, 2

## L_2
designator L?  value 10uH  Current: 1.19A
INDUCT SMD 10uH 1.19A SH4028; Manufacturer: ABC; Family: Катушка индуктивности; Montage: SMD; Package: SH4028
footprint SH4028 (Chip Inductor, Body |4.8mm)
pins: 1, 2

## L_3
designator L?  value 6.8uH  Current: 0.4A
INDUCT SMD 6.8uH 0.4A SQ3225; Manufacturer: ABC; Family: Катушка индуктивности; Montage: SMD; Package: SQ3225
footprint SQ3225 (Chip Inductor, Body o7.5mm)
signal-integrity model Cap
simulation model CAP
pins: 1, 2

## L_4
designator L?  value 40uH  Current: 0.9A
INDUCT SMD 40uH 0.9A SF0905; Manufacturer: ABC; Family: Катушка индуктивности; Montage: SMD; Package: SF0905
footprint SF0905 (Chip Inductor, Body o7.5mm)
signal-integrity model Cap
simulation model CAP
pins: 1, 2, 3, 4

## L_5
designator L?  value 22uH  Current: 1.95A
INDUCT SMD 22uH 1.95A SR0604; Manufacturer: ABC; Family: Катушка индуктивности; Montage: SMD; Package: SR0604
footprint SR0604 (Chip Inductor, Body o5.6mm)
signal-integrity model Cap
simulation model CAP
pins: 1, 2

## L_6
designator L?  value 33uH  Current: 1.5A
INDUCT SMD 33uH 1.5A SR0604; Manufacturer: ABC; Family: Катушка индуктивности; Montage: SMD; Package: SR0604
footprint SR0604 (Chip Inductor, Body o5.6mm)
signal-integrity model Cap
simulation model CAP
pins: 1, 2

## L_7
designator L?  value 68uH  Current: 0.62A
INDUCT SMD 68uH 0.62A SR0604; Manufacturer: ABC; Family: Катушка индуктивности; Montage: SMD; Package: SR0604
footprint SR0604 (Chip Inductor, Body o5.6mm)
signal-integrity model Cap
simulation model CAP
pins: 1, 2

## R
designator R?  value 1k
RES SMD 1k OHM 5% 0.1W 0603; Family: Резистор; Package: 0603; Montage: SMD; Tolerance: 5%
simulation model RESISTOR (Resistor)
signal-integrity model Res
footprint R_0603 (Chip, Body 1.6x0.85mm, IPC High Density)
pins: 1, 2

## R_1
designator R?  value 2k
RES SMD 2k OHM 5% 0.1W 0603; Family: Резистор; Package: 0603; Montage: SMD; Tolerance: 5%
simulation model RESISTOR (Resistor)
signal-integrity model Res
footprint R_0603 (Chip, Body 1.6x0.85mm, IPC High Density)
pins: 1, 2

## R_2
designator R?  value 3k
RES SMD 3k OHM 5% 0.1W 0603; Family: Резистор; Package: 0603; Montage: SMD; Tolerance: 5%
simulation model RESISTOR (Resistor)
signal-integrity model Res
footprint R_0603 (Chip, Body 1.6x0.85mm, IPC High Density)
pins: 1, 2

## R_3
designator R?  value 4.7k
RES SMD 4.7k OHM 5% 0.1W 0603; Family: Резистор; Package: 0603; Montage: SMD; Tolerance: 5%
simulation model RESISTOR (Resistor)
signal-integrity model Res
footprint R_0603 (Chip, Body 1.6x0.85mm, IPC High Density)
pins: 1, 2

## R_4
designator R?  value 10k
RES SMD 10k OHM 5% 0.1W 0603; Family: Резистор; Package: 0603; Montage: SMD; Tolerance: 5%
simulation model RESISTOR (Resistor)
signal-integrity model Res
footprint R_0603 (Chip, Body 1.6x0.85mm, IPC High Density)
pins: 1, 2

## R_5
designator R?  value 10R
RES SMD 10R OHM 5% 0.1W 0603; Family: Резистор; Package: 0603; Montage: SMD; Tolerance: 5%
simulation model RESISTOR (Resistor)
signal-integrity model Res
footprint R_0603 (Chip, Body 1.6x0.85mm, IPC High Density)
pins: 1, 2

## R_6
designator R?  value 11k
RES SMD 11k OHM 5% 0.1W 0603; Family: Резистор; Package: 0603; Montage: SMD; Tolerance: 5%
simulation model RESISTOR (Resistor)
signal-integrity model Res
footprint R_0603 (Chip, Body 1.6x0.85mm, IPC High Density)
pins: 1, 2

## R_7
designator R?  value 18k
RES SMD 18k OHM 5% 0.1W 0603; Family: Резистор; Package: 0603; Montage: SMD; Tolerance: 5%
simulation model RESISTOR (Resistor)
signal-integrity model Res
footprint R_0603 (Chip, Body 1.6x0.85mm, IPC High Density)
pins: 1, 2

## R_8
designator R?  value 20k
RES SMD 20k OHM 5% 0.1W 0603; Family: Резистор; Package: 0603; Montage: SMD; Tolerance: 5%
simulation model RESISTOR (Resistor)
signal-integrity model Res
footprint R_0603 (Chip, Body 1.6x0.85mm, IPC High Density)
pins: 1, 2

## R_9
designator R?  value 47k
RES SMD 47k OHM 5% 0.1W 0603; Family: Резистор; Package: 0603; Montage: SMD; Tolerance: 5%
simulation model RESISTOR (Resistor)
signal-integrity model Res
footprint R_0603 (Chip, Body 1.6x0.85mm, IPC High Density)
pins: 1, 2

## R_10
designator R?  value 100k
RES SMD 100k OHM 5% 0.1W 0603; Family: Резистор; Package: 0603; Montage: SMD; Tolerance: 5%
simulation model RESISTOR (Resistor)
signal-integrity model Res
footprint R_0603 (Chip, Body 1.6x0.85mm, IPC High Density)
pins: 1, 2

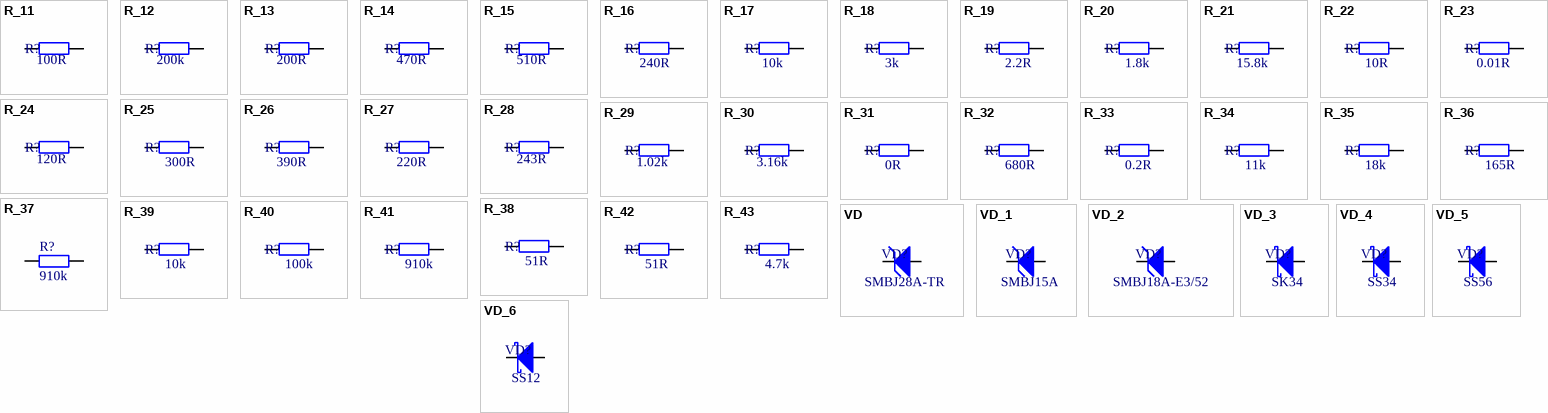
[diagram p2: symbols R_11 to VD_6]

## R_11
designator R?  value 100R
RES SMD 100R OHM 5% 0.1W 0603; Family: Резистор; Package: 0603; Montage: SMD; Tolerance: 5%
simulation model RESISTOR (Resistor)
signal-integrity model Res
footprint R_0603 (Chip, Body 1.6x0.85mm, IPC High Density)
pins: 1, 2

## R_12
designator R?  value 200k
RES SMD 200k OHM 5% 0.1W 0603; Family: Резистор; Package: 0603; Montage: SMD; Tolerance: 5%
simulation model RESISTOR (Resistor)
signal-integrity model Res
footprint R_0603 (Chip, Body 1.6x0.85mm, IPC High Density)
pins: 1, 2

## R_13
designator R?  value 200R
RES SMD 200R OHM 5% 0.1W 0603; Family: Резистор; Package: 0603; Montage: SMD; Tolerance: 5%
simulation model RESISTOR (Resistor)
signal-integrity model Res
footprint R_0603 (Chip, Body 1.6x0.85mm, IPC High Density)
pins: 1, 2

## R_14
designator R?  value 470R
RES SMD 470R OHM 5% 0.1W 0603; Family: Резистор; Package: 0603; Montage: SMD; Tolerance: 5%
simulation model RESISTOR (Resistor)
signal-integrity model Res
footprint R_0603 (Chip, Body 1.6x0.85mm, IPC High Density)
pins: 1, 2

## R_15
designator R?  value 510R
RES SMD 510R OHM 5% 0.1W 0603; Family: Резистор; Package: 0603; Montage: SMD; Tolerance: 5%
simulation model RESISTOR (Resistor)
signal-integrity model Res
footprint R_0603 (Chip, Body 1.6x0.85mm, IPC High Density)
pins: 1, 2

## R_16
designator R?  value 240R
RES SMD 240R OHM 5% 0.1W 0603; Family: Резистор; Package: 0603; Montage: SMD; Tolerance: 5%
simulation model RESISTOR (Resistor)
signal-integrity model Res
footprint R_0603 (Chip, Body 1.6x0.85mm, IPC High Density)
pins: 1, 2

## R_17
designator R?  value 10k
RES SMD 10k OHM 1% 0.1W 0603; Family: Резистор; Package: 0603; Montage: SMD; Tolerance: 1%
simulation model RESISTOR (Resistor)
signal-integrity model Res
footprint R_0603 (Chip, Body 1.6x0.85mm, IPC High Density)
pins: 1, 2

## R_18
designator R?  value 3k
RES SMD 3k OHM 1% 0.1W 0603; Family: Резистор; Package: 0603; Montage: SMD; Tolerance: 1%
simulation model RESISTOR (Resistor)
signal-integrity model Res
footprint R_0603 (Chip, Body 1.6x0.85mm, IPC High Density)
pins: 1, 2

## R_19
designator R?  value 2.2R
RES SMD 2.2 OHM 5% 0.1W 0603; Family: Резистор; Package: 0603; Montage: SMD; Tolerance: 5%
simulation model RESISTOR (Resistor)
signal-integrity model Res
footprint R_0603 (Chip, Body 1.6x0.85mm, IPC High Density)
pins: 1, 2

## R_20
designator R?  value 1.8k
RES SMD 1.8k OHM 1% 0.1W 0603; Family: Резистор; Package: 0603; Montage: SMD; Tolerance: 1%
simulation model RESISTOR (Resistor)
signal-integrity model Res
footprint R_0603 (Chip, Body 1.6x0.85mm, IPC High Density)
pins: 1, 2

## R_21
designator R?  value 15.8k
RES SMD 15.8k OHM 1% 0.1W 0603; Family: Резистор; Package: 0603; Montage: SMD; Tolerance: 1%
simulation model RESISTOR (Resistor)
signal-integrity model Res
footprint R_0603 (Chip, Body 1.6x0.85mm, IPC High Density)
pins: 1, 2

## R_22
designator R?  value 10R
RES SMD 10R OHM 5% 0.125W 0805; Family: Резистор; Package: 0805; Montage: SMD; Tolerance: 5%
simulation model RESISTOR (Resistor)
signal-integrity model Res
footprint R_0805 (Chip, Body 1.6x0.85mm, IPC High Density)
pins: 1, 2

## R_23
designator R?  value 0.01R
RES SMD 0.01R OHM 1% 0.1W 0603; Family: Резистор; Package: 0603; Montage: SMD; Tolerance: 1%
simulation model RESISTOR (Resistor)
signal-integrity model Res
footprint R_0603 (Chip, Body 1.6x0.85mm, IPC High Density)
pins: 1, 2

## R_24
designator R?  value 120R
RES SMD 120R OHM 5% 0.1W 0603; Family: Резистор; Package: 0603; Montage: SMD; Tolerance: 5%
simulation model RESISTOR (Resistor)
signal-integrity model Res
footprint R_0603 (Chip, Body 1.6x0.85mm, IPC High Density)
pins: 1, 2

## R_25
designator R?  value 300R
RES SMD 300R OHM 5% 0.1W 0603; Family: Резистор; Package: 0603; Montage: SMD; Tolerance: 5%
simulation model RESISTOR (Resistor)
signal-integrity model Res
footprint R_0603 (Chip, Body 1.6x0.85mm, IPC High Density)
pins: 1, 2

## R_26
designator R?  value 390R
RES SMD 390R OHM 5% 0.1W 0603; Family: Резистор; Package: 0603; Montage: SMD; Tolerance: 5%
simulation model RESISTOR (Resistor)
signal-integrity model Res
footprint R_0603 (Chip, Body 1.6x0.85mm, IPC High Density)
pins: 1, 2

## R_27
designator R?  value 220R
RES SMD 220R OHM 5% 0.1W 0603; Family: Резистор; Package: 0603; Montage: SMD; Tolerance: 5%
simulation model RESISTOR (Resistor)
signal-integrity model Res
footprint R_0603 (Chip, Body 1.6x0.85mm, IPC High Density)
pins: 1, 2

## R_28
designator R?  value 243R
RES SMD 243R OHM 1% 0.1W 0603; Family: Резистор; Package: 0603; Montage: SMD; Tolerance: 1%
simulation model RESISTOR (Resistor)
signal-integrity model Res
footprint R_0603 (Chip, Body 1.6x0.85mm, IPC High Density)
pins: 1, 2

## R_29
designator R?  value 1.02k
RES SMD 1.02k OHM 1% 0.1W 0603; Family: Резистор; Package: 0603; Montage: SMD; Tolerance: 1%
simulation model RESISTOR (Resistor)
signal-integrity model Res
footprint R_0603 (Chip, Body 1.6x0.85mm, IPC High Density)
pins: 1, 2

## R_30
designator R?  value 3.16k
RES SMD 3.16k OHM 1% 0.1W 0603; Family: Резистор; Package: 0603; Montage: SMD; Tolerance: 1%
simulation model RESISTOR (Resistor)
signal-integrity model Res
footprint R_0603 (Chip, Body 1.6x0.85mm, IPC High Density)
pins: 1, 2

## R_31
designator R?  value 0R
RES SMD 0 OHM 5% 0.1W 0603; Family: Резистор; Package: 0603; Montage: SMD; Tolerance: 5%
simulation model RESISTOR (Resistor)
signal-integrity model Res
footprint R_0603 (Chip, Body 1.6x0.85mm, IPC High Density)
pins: 1, 2

## R_32
designator R?  value 680R
RES SMD 680R OHM 5% 0.1W 0603; Family: Резистор; Package: 0603; Montage: SMD; Tolerance: 5%
simulation model RESISTOR (Resistor)
signal-integrity model Res
footprint R_0603 (Chip, Body 1.6x0.85mm, IPC High Density)
pins: 1, 2

## R_33
designator R?  value 0.2R
RES SMD 0.2R OHM 1% 0.125W 0805; Family: Резистор; Package: 0805; Montage: SMD; Tolerance: 1%
simulation model RESISTOR (Resistor)
signal-integrity model Res
footprint R_0805 (Chip, Body 1.6x0.85mm, IPC High Density)
pins: 1, 2

## R_34
designator R?  value 11k
RES SMD 11k OHM 1% 0.1W 0603; Family: Резистор; Package: 0603; Montage: SMD; Tolerance: 1%
simulation model RESISTOR (Resistor)
signal-integrity model Res
footprint R_0603 (Chip, Body 1.6x0.85mm, IPC High Density)
pins: 1, 2

## R_35
designator R?  value 18k
RES SMD 18k OHM 1% 0.1W 0603; Family: Резистор; Package: 0603; Montage: SMD; Tolerance: 1%
simulation model RESISTOR (Resistor)
signal-integrity model Res
footprint R_0603 (Chip, Body 1.6x0.85mm, IPC High Density)
pins: 1, 2

## R_36
designator R?  value 165R
RES SMD 165R OHM 1% 0.1W 0603; Family: Резистор; Package: 0603; Montage: SMD; Tolerance: 1%
simulation model RESISTOR (Resistor)
signal-integrity model Res
footprint R_0603 (Chip, Body 1.6x0.85mm, IPC High Density)
pins: 1, 2

## R_37
designator R?  value 910k
RES SMD 910k OHM 5% 0.1W 0603; Family: Резистор; Package: 0603; Montage: SMD; Tolerance: 5%
simulation model RESISTOR (Resistor)
signal-integrity model Res
footprint R_0603 (Chip, Body 1.6x0.85mm, IPC High Density)
pins: 1, 1, 2, 2

## R_38
designator R?  value 51R
RES SMD 51R OHM 5% 0.1W 0603; Family: Резистор; Package: 0603; Montage: SMD; Tolerance: 5%
simulation model RESISTOR (Resistor)
signal-integrity model Res
footprint R_0603 (Chip, Body 1.6x0.85mm, IPC High Density)
pins: 1, 2

## R_39
designator R?  value 10k
RES SMD 10k OHM 5% 0.062W 0402; Family: Резистор; Package: 0402; Montage: SMD; Tolerance: 5%
simulation model RESISTOR (Resistor)
signal-integrity model Res
footprint R_0402 (Chip, Body 1.6x0.85mm, IPC High Density)
pins: 1, 2

## R_40
designator R?  value 100k
RES SMD 100k OHM 5% 0.062W 0402; Family: Резистор; Package: 0402; Montage: SMD; Tolerance: 5%
simulation model RESISTOR (Resistor)
signal-integrity model Res
footprint R_0402 (Chip, Body 1.6x0.85mm, IPC High Density)
pins: 1, 2

## R_41
designator R?  value 910k
RES SMD 910k OHM 5% 0.062W 0402; Family: Резистор; Package: 0402; Montage: SMD; Tolerance: 5%
simulation model RESISTOR (Resistor)
signal-integrity model Res
footprint R_0402 (Chip, Body 1.6x0.85mm, IPC High Density)
pins: 1, 2

## R_42
designator R?  value 51R
RES SMD 51R OHM 5% 0.062W 0402; Family: Резистор; Package: 0402; Montage: SMD; Tolerance: 5%
simulation model RESISTOR (Resistor)
signal-integrity model Res
footprint R_0402 (Chip, Body 1.6x0.85mm, IPC High Density)
pins: 1, 2